# EAGLE library part CS8130 (library Elecrow_IC)
Multi-Standard Infrared Transceiver http://mct.de/download/crystal/cs8130.pdf
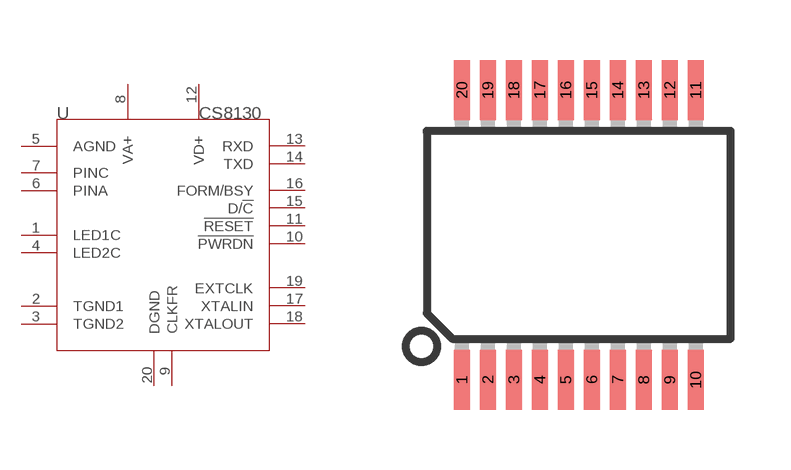
[diagram p38: symbol with the pads of SSOP20; footprint SSOP20]

Designator prefix U

## CS8130-SSOP20  [SSOP20]
1  LED1C  in
2  TGND1  pwr
3  TGND2  pwr
4  LED2C  out
5  AGND  pwr
6  PINA  out
7  PINC  out
8  VA+  pwr
9  CLKFR  in
10  !PWRDN  in
11  !RESET  in
12  VD+  pwr
13  RXD  in
14  TXD  out
15  D/!C  in
16  FORM/BSY  out
17  XTALIN  in
18  XTALOUT  out
19  EXTCLK  out
20  DGND  pwr

## Footprint SSOP20 (pad centres in mm)
Shrink Small Outline Package package type SS
smd 0.4 x 1.5: 1 -2.925,-3.625; 2 -2.275,-3.625; 3 -1.625,-3.625; 4 -0.975,-3.625; 5 -0.325,-3.625; 6 0.325,-3.625; 7 0.975,-3.625; 8 1.625,-3.625; 9 2.275,-3.625; 10 2.925,-3.625; 11 2.925,3.625; 12 2.275,3.625; 13 1.625,3.625; 14 0.975,3.625; 15 0.325,3.625; 16 -0.325,3.625; 17 -0.975,3.625; 18 -1.625,3.625; 19 -2.275,3.625; 20 -2.925,3.625